# EAGLE library part 8284-B (library micro-siemens)
MICROPROCESSOR/PERIPHERAL DEVICE
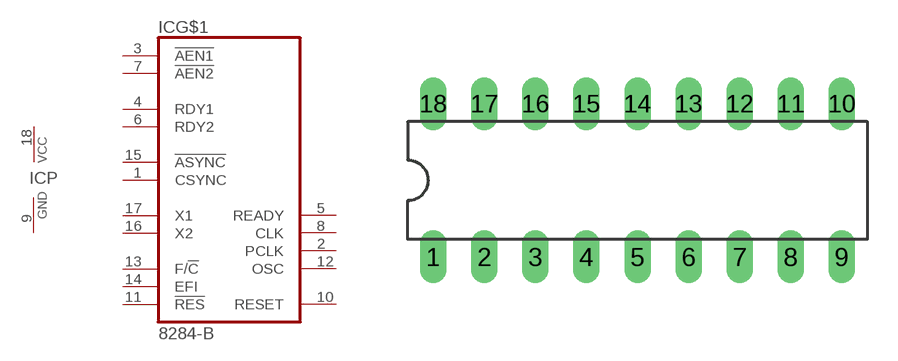
[diagram p27: symbol with the pads of DIL18; footprint DIL18]

Designator prefix IC; gates G$1=8284-B P=VCCGND

## 8284-B (OC_FARNELL: unknown; OC_NEWARK: unknown)  [DIL18]
1  G$1:CSYNC  in
2  G$1:PCLK  out
3  G$1:!AEN1  in
4  G$1:RDY1  in
5  G$1:READY  out
6  G$1:RDY2  in
7  G$1:!AEN2  in
8  G$1:CLK  out
9  P:GND  pwr
10  G$1:RESET  out
11  G$1:!RES  in
12  G$1:OSC  out
13  G$1:F/!C  in
14  G$1:EFI  in
15  G$1:!ASYNC  in
16  G$1:X2  in
17  G$1:X1  in
18  P:VCC  pwr

## Footprint DIL18 (pad centres in mm)
Dual In Line Package
drill 0.813 long: 1 -10.16,-3.81; 2 -7.62,-3.81; 3 -5.08,-3.81; 4 -2.54,-3.81; 5 0,-3.81; 6 2.54,-3.81; 7 5.08,-3.81; 8 7.62,-3.81; 9 10.16,-3.81; 10 10.16,3.81; 11 7.62,3.81; 12 5.08,3.81; 13 2.54,3.81; 14 0,3.81; 15 -2.54,3.81; 16 -5.08,3.81; 17 -7.62,3.81; 18 -10.16,3.81